# EAGLE library part NRF52832 (library LARS_409_MK)
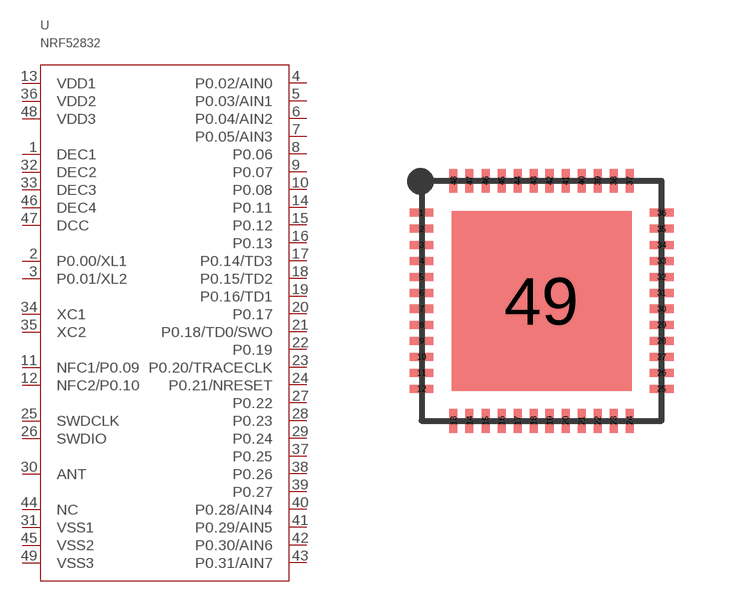
[diagram p11: symbol with the pads of QFN48(6X6); footprint QFN48(6X6)]

Designator prefix U

## NRF52832  [QFN48(6X6)]
1  DEC1
2  P0.00/XL1
3  P0.01/XL2
4  P0.02/AIN0
5  P0.03/AIN1
6  P0.04/AIN2
7  P0.05/AIN3
8  P0.06
9  P0.07
10  P0.08
11  NFC1/P0.09
12  NFC2/P0.10
13  VDD1
14  P0.11
15  P0.12
16  P0.13
17  P0.14/TD3
18  P0.15/TD2
19  P0.16/TD1
20  P0.17
21  P0.18/TD0/SWO
22  P0.19
23  P0.20/TRACECLK
24  P0.21/NRESET
25  SWDCLK
26  SWDIO
27  P0.22
28  P0.23
29  P0.24
30  ANT
31  VSS1
32  DEC2
33  DEC3
34  XC1
35  XC2
36  VDD2
37  P0.25
38  P0.26
39  P0.27
40  P0.28/AIN4
41  P0.29/AIN5
42  P0.30/AIN6
43  P0.31/AIN7
44  NC
45  VSS2
46  DEC4
47  DCC
48  VDD3
49  VSS3

## Footprint QFN48(6X6) (pad centres in mm)
smd 0.6 x 0.2: 1 -3,2.2; 2 -3,1.8; 3 -3,1.4; 4 -3,1; 5 -3,0.6; 6 -3,0.2; 7 -3,-0.2; 8 -3,-0.6; 9 -3,-1; 10 -3,-1.4; 11 -3,-1.8; 12 -3,-2.2; 25 3,-2.2; 26 3,-1.8; 27 3,-1.4; 28 3,-1; 29 3,-0.6; 30 3,-0.2; 31 3,0.2; 32 3,0.6; 33 3,1; 34 3,1.4; 35 3,1.8; 36 3,2.2
smd 0.2 x 0.6: 13 -2.2,-3; 14 -1.8,-3; 15 -1.4,-3; 16 -1,-3; 17 -0.6,-3; 18 -0.2,-3; 19 0.2,-3; 20 0.6,-3; 21 1,-3; 22 1.4,-3; 23 1.8,-3; 24 2.2,-3; 37 2.2,3; 38 1.8,3; 39 1.4,3; 40 1,3; 41 0.6,3; 42 0.2,3; 43 -0.2,3; 44 -0.6,3; 45 -1,3; 46 -1.4,3; 47 -1.8,3; 48 -2.2,3
smd 4.5 x 4.5: 49 0,0